# Altium footprint library FreeEMS Footprint Library.PcbLib: 27 footprints (part 1 of 2)
Each footprint in its own frame and in the unit in brackets; x right, y up, seen from the top. Pads: shape width x height; smd on the part's side, far side on the other; paste and mask are expansions set on the pad; w line width, h text height; cw(c..) or ccw(c..) is an arc to the next point about the centre after c.
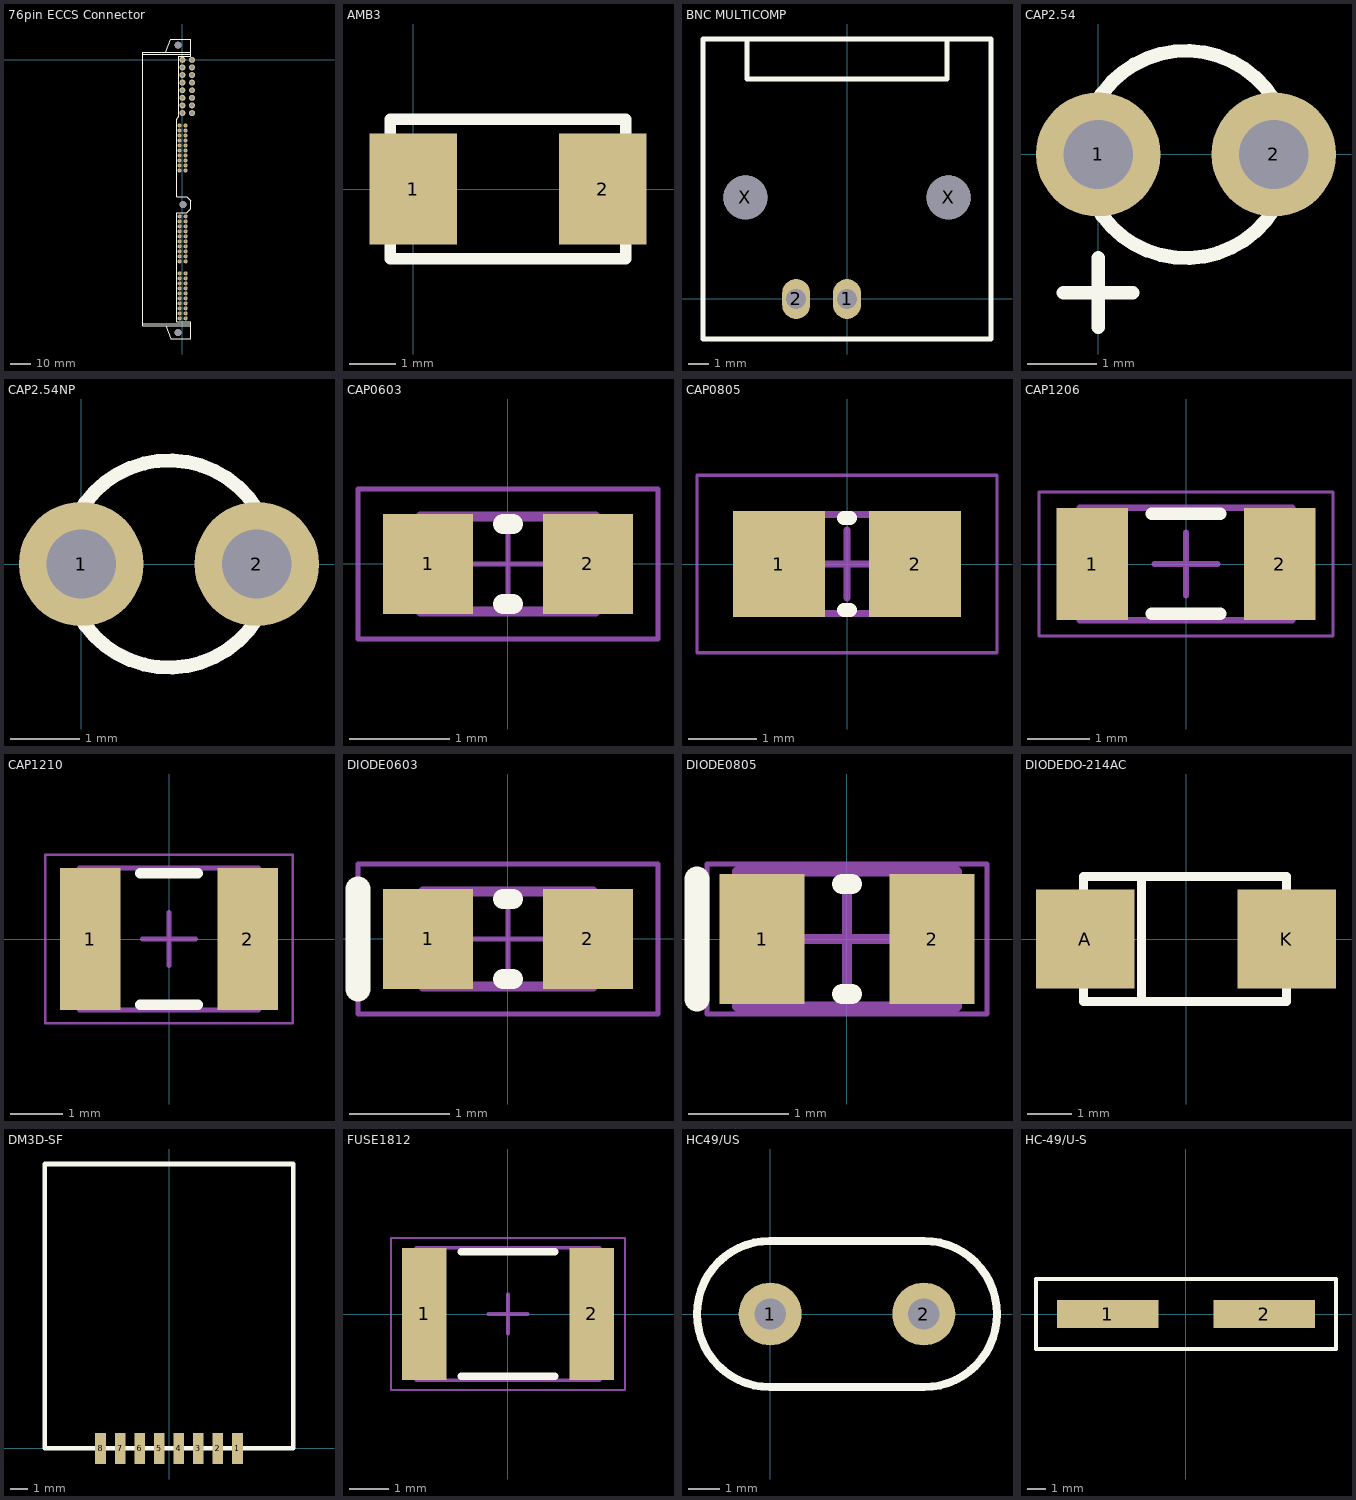
[diagram p0: the footprints below, top view; thin cyan lines are the x and y axes]

## 76pin ECCS Connector [mm]
pads (79):
  round 2 hole 1.1: 1(-1.4,-129.25) 1(-1.4,-126.75) 1(-1.4,-124.25) 1(-1.4,-121.75) 1(-1.4,-119.25) 1(-1.4,-116.75) 1(-1.4,-114.25) 1(-1.4,-111.75) 1(-1.4,-109.25) 1(-1.4,-106.75) 1(-1.4,-100.75) 1(-1.4,-98.25) 1(-1.4,-95.75) 1(-1.4,-93.25) 1(-1.4,-90.75) 1(-1.4,-88.25) 1(-1.4,-85.75) 1(-1.4,-83.25) 1(-1.4,-80.75) 1(-1.4,-78.25) 1(-1.4,-55.35) 1(-1.4,-52.85) 1(-1.4,-50.35) 1(-1.4,-47.85) 1(-1.4,-45.35) 1(-1.4,-42.85) 1(-1.4,-40.35) 1(-1.4,-37.85) 1(-1.4,-35.35) 1(-1.4,-32.85) 1(1.6,-129.25) 1(1.6,-126.75) 1(1.6,-124.25) 1(1.6,-121.75) 1(1.6,-119.25) 1(1.6,-116.75) 1(1.6,-114.25) 1(1.6,-111.75) 1(1.6,-109.25) 1(1.6,-106.75) 1(1.6,-100.75) 1(1.6,-98.25) 1(1.6,-95.75) 1(1.6,-93.25) 1(1.6,-90.75) 1(1.6,-88.25) 1(1.6,-85.75) 1(1.6,-83.25) 1(1.6,-80.75) 1(1.6,-78.25) 1(1.6,-55.35) 1(1.6,-52.85) 1(1.6,-50.35) 1(1.6,-47.85) 1(1.6,-45.35) 1(1.6,-42.85) 1(1.6,-40.35) 1(1.6,-37.85) 1(1.6,-35.35) 1(1.6,-32.85)
  round 3 hole 1.8: 109(0,-26.6) 109(0,-22.8) 109(0,-19) 109(0,-15.2) 109(0,-11.4) 109(0,-7.6) 109(0,-3.8) 109(0,0) 109(4.8,-26.6) 109(4.8,-22.8) 109(4.8,-19) 109(4.8,-15.2) 109(4.8,-11.4) 109(4.8,-7.6) 109(4.8,-3.8) 109(4.8,0)
  round 3.5 hole 3.5: X(-2.2,-136.35) X(-2.2,7.35) X(0.3,-72.35)
Top Overlay:
  lines w0.127: -19.71,-131.928 4.09,-131.928 ; -19.71,2.772 4.09,2.772 ; -8.21,-132.928 -5.71,-139.578 4.09,-139.578 4.09,-130.928 -2.71,-130.928 -2.71,-76.428 2.09,-76.428 4.09,-74.428 4.09,-70.428 2.09,-68.428 -2.71,-68.428 -2.71,-29.728 -1.71,-28.228 -1.71,1.772 4.09,1.772 4.09,10.422 -5.71,10.422 -8.21,3.772 ; 4.09,-132.928 -19.71,-132.928 -19.71,3.772 4.09,3.772

## AMB3 [mm]
pads (2):
  rect 1.9x2.4 smd: 1(0,0) 2(4.1,0)
Top Overlay:
  lines w0.254: -0.5,-1.51 -0.5,1.51 4.6,1.51 4.6,-1.51 -0.5,-1.51

## BNC MULTICOMP [mm]
pads (4):
  oval 1.4x2 hole 1: 1(0,0) 2(-2.54,0)
  round 2.2 hole 2.2: X(-5.08,5.08) X(5.08,5.08)
Top Overlay:
  lines w0.254: -5,13 -5,11 5,11 5,13 ; -7.2,-2 7.2,-2 7.2,13 -7.2,13 -7.2,-2

## CAP2.54 [mm]
pads (2):
  round 1.8 hole 1: 1(0,0) 2(2.54,0)
Top Overlay:
  circle w0.2: c1.27,0 r1.5
  lines w0.2: -0.5,-2 0.5,-2 ; 0,-2.5 0,-1.5

## CAP2.54NP [mm]
pads (2):
  round 1.8 hole 1: 1(0,0) 2(2.54,0)
Top Overlay:
  circle w0.2: c1.27,0 r1.5

## CAP0603 [mm] "Chip Capacitor, Body 1.6x0.8mm, Height 1.0mm, IPC Medium Density"
height 1
pads (2):
  rect 0.9x1 smd: 1(-0.8,0) 2(0.8,0)
Top Overlay:
  lines w0.2: -0.05,-0.4 0.05,-0.4 ; -0.05,0.4 0.05,0.4
Mechanical 13:
  lines w0.1: -0.875,-0.475 -0.875,0.475 0.875,0.475 0.875,-0.475 -0.875,-0.475
Mechanical 15:
  lines w0.05: -0.475,0 0.475,0 ; 0,-0.475 0,0.475 ; -1.5,-0.75 -1.5,0.75 1.5,0.75 1.5,-0.75 -1.5,-0.75
3D body: height 1, standoff 0, extent -0.525,-0.475 0.525,0.475
3D body: height 1, standoff 0, extent -0.875,-0.475 -0.525,0.475
3D body: height 1, standoff 0, extent 0.525,-0.475 0.875,0.475

## CAP0805 [mm] "Chip Capacitor, Body 2.0x1.2mm, Height 0.75mm, IPC Low Density"
height 0.75
pads (2):
  rect 1.35x1.55 smd: 1(-1,0) 2(1,0)
Top Overlay:
  lines w0.2: -0.05,-0.675 0.05,-0.675 ; -0.05,0.675 0.05,0.675
Mechanical 13:
  lines w0.1: -1.1,-0.725 -1.1,0.725 1.1,0.725 1.1,-0.725 -1.1,-0.725
Mechanical 15:
  lines w0.05: -2.2,-1.3 -2.2,1.3 2.2,1.3 2.2,-1.3 -2.2,-1.3
  lines w0.1: -0.5,0 0.5,0 ; 0,-0.5 0,0.5
3D body: height 0.75, standoff 0, extent -0.6,-0.725 0.6,0.725
3D body: height 0.75, standoff 0, extent -1.1,-0.725 -0.6,0.725
3D body: height 0.75, standoff 0, extent 0.6,-0.725 1.1,0.725

## CAP1206 [mm] "Chip Capacitor, Body 3.2x1.6mm, Height 1mm, IPC Medium Density"
height 1
pads (2):
  rect 1.15x1.8 smd: 1(-1.5,0) 2(1.5,0)
Top Overlay:
  lines w0.2: -0.55,-0.8 0.55,-0.8 ; -0.55,0.8 0.55,0.8
Mechanical 13:
  lines w0.1: -1.7,-0.9 1.7,-0.9 1.7,0.9 -1.7,0.9 -1.7,-0.9
Mechanical 15:
  lines w0.05: -2.35,-1.15 2.35,-1.15 2.35,1.15 -2.35,1.15 -2.35,-1.15
  lines w0.1: -0.5,0 0.5,0 ; 0,-0.5 0,0.5
3D body: height 1, standoff 0, extent 1.2,-0.9 1.7,0.9
3D body: height 1, standoff 0, extent -1.7,-0.9 -1.2,0.9
3D body: height 1, standoff 0, extent -1.2,-0.9 1.2,0.9

## CAP1210 [mm] "Chip Capacitor, Body 3.2x2.5mm, Height 1mm, IPC Medium Density"
height 1
pads (2):
  rect 1.15x2.7 smd: 1(-1.5,0) 2(1.5,0)
Top Overlay:
  lines w0.2: -0.55,-1.25 0.55,-1.25 ; -0.55,1.25 0.55,1.25
Mechanical 13:
  lines w0.1: -1.7,-1.35 1.7,-1.35 1.7,1.35 -1.7,1.35 -1.7,-1.35
Mechanical 15:
  lines w0.05: -2.35,-1.6 2.35,-1.6 2.35,1.6 -2.35,1.6 -2.35,-1.6
  lines w0.1: -0.5,0 0.5,0 ; 0,-0.5 0,0.5
3D body: height 1, standoff 0, extent 1.2,-1.35 1.7,1.35
3D body: height 1, standoff 0, extent -1.7,-1.35 -1.2,1.35
3D body: height 1, standoff 0, extent -1.2,-1.35 1.2,1.35

## DIODE0603 [mm] "Chip Diode, Body 1.6x0.8mm, IPC Medium Density"
height 0.6
pads (2):
  rect 0.9x1 smd: 1(-0.8,0) 2(0.8,0)
Top Overlay:
  lines w0.2: -0.05,-0.4 0.05,-0.4 ; -0.05,0.4 0.05,0.4
  lines w0.254: -1.5,-0.5 -1.5,0.5
Mechanical 13:
  lines w0.1: -0.85,-0.475 -0.85,0.475 0.85,0.475 0.85,-0.475 -0.85,-0.475
Mechanical 15:
  lines w0.05: -0.475,0 0.475,0 ; 0,-0.475 0,0.475 ; -1.5,-0.75 -1.5,0.75 1.5,0.75 1.5,-0.75 -1.5,-0.75
3D body: height 0.6, standoff 0, extent 0.581,-0.474 0.85,0.475
3D body: height 0.6, standoff 0, extent -0.58,-0.474 0.581,0.475
3D body: height 0.6, standoff 0, extent -0.849,-0.474 -0.58,0.475

## DIODE0805 [mm] "Chip Diode, Body 2.0x1.3mm, IPC High Density"
height 0.7
pads (2):
  rect 0.85x1.3 smd: 1(-0.85,0) 2(0.85,0)
Top Overlay:
  lines w0.2: -0.05,-0.55 0.05,-0.55 ; -0.05,0.55 0.05,0.55
  lines w0.254: -1.5,-0.6 -1.5,0.6
Mechanical 13:
  lines w0.1: -1.1,-0.675 1.1,-0.675 1.1,0.675 -1.1,0.675 -1.1,-0.675
Mechanical 15:
  lines w0.05: -1.4,-0.75 1.4,-0.75 1.4,0.75 -1.4,0.75 -1.4,-0.75
  lines w0.1: -0.5,0 0.5,0 ; 0,-0.5 0,0.5
3D body: height 0.7, standoff 0, extent 0.68,-0.675 1.1,0.675
3D body: height 0.7, standoff 0, extent -0.68,-0.675 0.68,0.675
3D body: height 0.7, standoff 0, extent -1.1,-0.675 -0.68,0.675

## DIODEDO-214AC [mm]
pads (2):
  rect 2.2x2.21 smd: A(-2.25,0) K(2.25,0)
Top Overlay:
  lines w0.2: -2.295,-1.4 -2.295,1.4 ; -2.25,-1.4 2.25,-1.4 2.25,1.4 -2.25,1.4 ; -1,-1.4 -1,1.4

## DM3D-SF [mm]
pads (8):
  rect 0.6x1.75 smd: 1(3.85,0) 2(2.75,0) 3(1.65,0) 4(0.55,0) 5(-0.55,0) 6(-1.65,0) 7(-2.75,0) 8(-3.85,0)
Top Overlay:
  lines w0.254: -7,0 -7,16 7,16 7,0 0,0 -7,0

## FUSE1812 [mm] "Chip Polyfuse, Body 4.5x3.2mm, IPC Medium Density"
height 0.71
pads (2):
  rect 1.15x3.4 smd: 1(-2.15,0) 2(2.15,0)
Top Overlay:
  lines w0.2: -1.2,-1.6 1.2,-1.6 ; -1.2,1.6 1.2,1.6
Mechanical 13:
  lines w0.1: -2.35,-1.7 -2.35,1.7 2.35,1.7 2.35,-1.7 -2.35,-1.7
Mechanical 15:
  lines w0.05: -3,-1.95 -3,1.95 3,1.95 3,-1.95 -3,-1.95
  lines w0.1: -0.5,0 0.5,0 ; 0,-0.5 0,0.5
3D body: height 0.71, standoff 0, extent 1.801,-1.7 2.35,1.7
3D body: height 0.71, standoff 0, extent -1.8,-1.699 1.801,1.7
3D body: height 0.71, standoff 0, extent -2.35,-1.7 -1.8,1.7

## HC49/US [mm]
pads (2):
  round 2 hole 1: 1(0,0) 2(4.88,0)
Top Overlay:
  lines w0.254: 0,-2.325 cw(c0,0) 0,2.325 4.88,2.325 cw(c4.88,0) 4.88,-2.325 0,-2.325

## HC-49/U-S [mm]
pads (2):
  rect 5.5x1.5 smd: 1(-4.25,0) 2(4.25,0)
Top Overlay:
  lines w0.2: -8.15,-1.9 8.15,-1.9 8.15,1.9 -8.15,1.9 -8.15,0 -8.15,-1.9